# EAGLE library part SN74LVC3G17DCTR (library ti)
TRIPLE SCHMITT-TRIGGER BUFFER
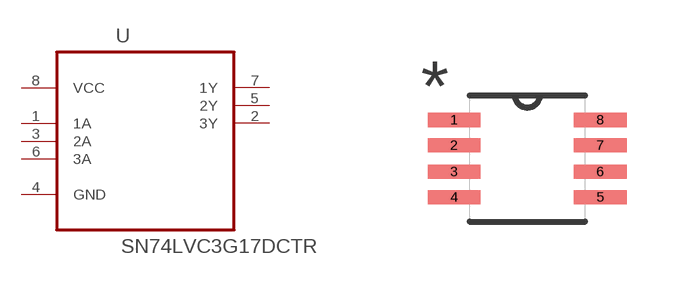
[diagram p3: symbol with the pads of SOP65P400X130-8N; footprint SOP65P400X130-8N]

Designator prefix U

## SN74LVC3G17DCTR (MPN: SN74LVC3G17DCTR; OC_FARNELL: 1236391; OC_NEWARK: 90H3713; PACKAGE: SSOP-8; SUPPLIER: Texas Instruments)  [SOP65P400X130-8N]
1  1A  in
2  3Y  out
3  2A  in
4  GND  pas
5  2Y  out
6  3A  in
7  1Y  out
8  VCC  pwr

## Footprint SOP65P400X130-8N (pad centres in mm)
smd 1.321 x 0.356: 1 -1.829,0.965; 2 -1.829,0.33; 3 -1.829,-0.33; 4 -1.829,-0.965; 5 1.829,-0.965; 6 1.829,-0.33; 7 1.829,0.33; 8 1.829,0.965